# Altium schematic symbol library Term,Header,3x2 Pin,1.27mm,SMD.Schlib: 1 symbol
Pins are listed as number, name and electrical type; pins without a type are passive.

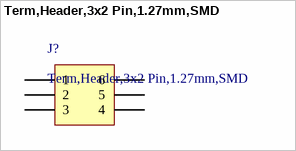
[diagram p0: symbol Term,Header,3x2 Pin,1.27mm,SMD]

## Term,Header,3x2 Pin,1.27mm,SMD
designator J?
Connector Header Surface Mount 6 position 0.050" (1.27mm)
pins: 1, 2, 3, 4, 5, 6